# Altium footprint library Connectors.PcbLib: 73 footprints (part 1 of 5)
Each footprint in its own frame and in the unit in brackets; x right, y up, seen from the top. Pads: shape width x height; smd on the part's side, far side on the other; paste and mask are expansions set on the pad; w line width, h text height; cw(c..) or ccw(c..) is an arc to the next point about the centre after c.
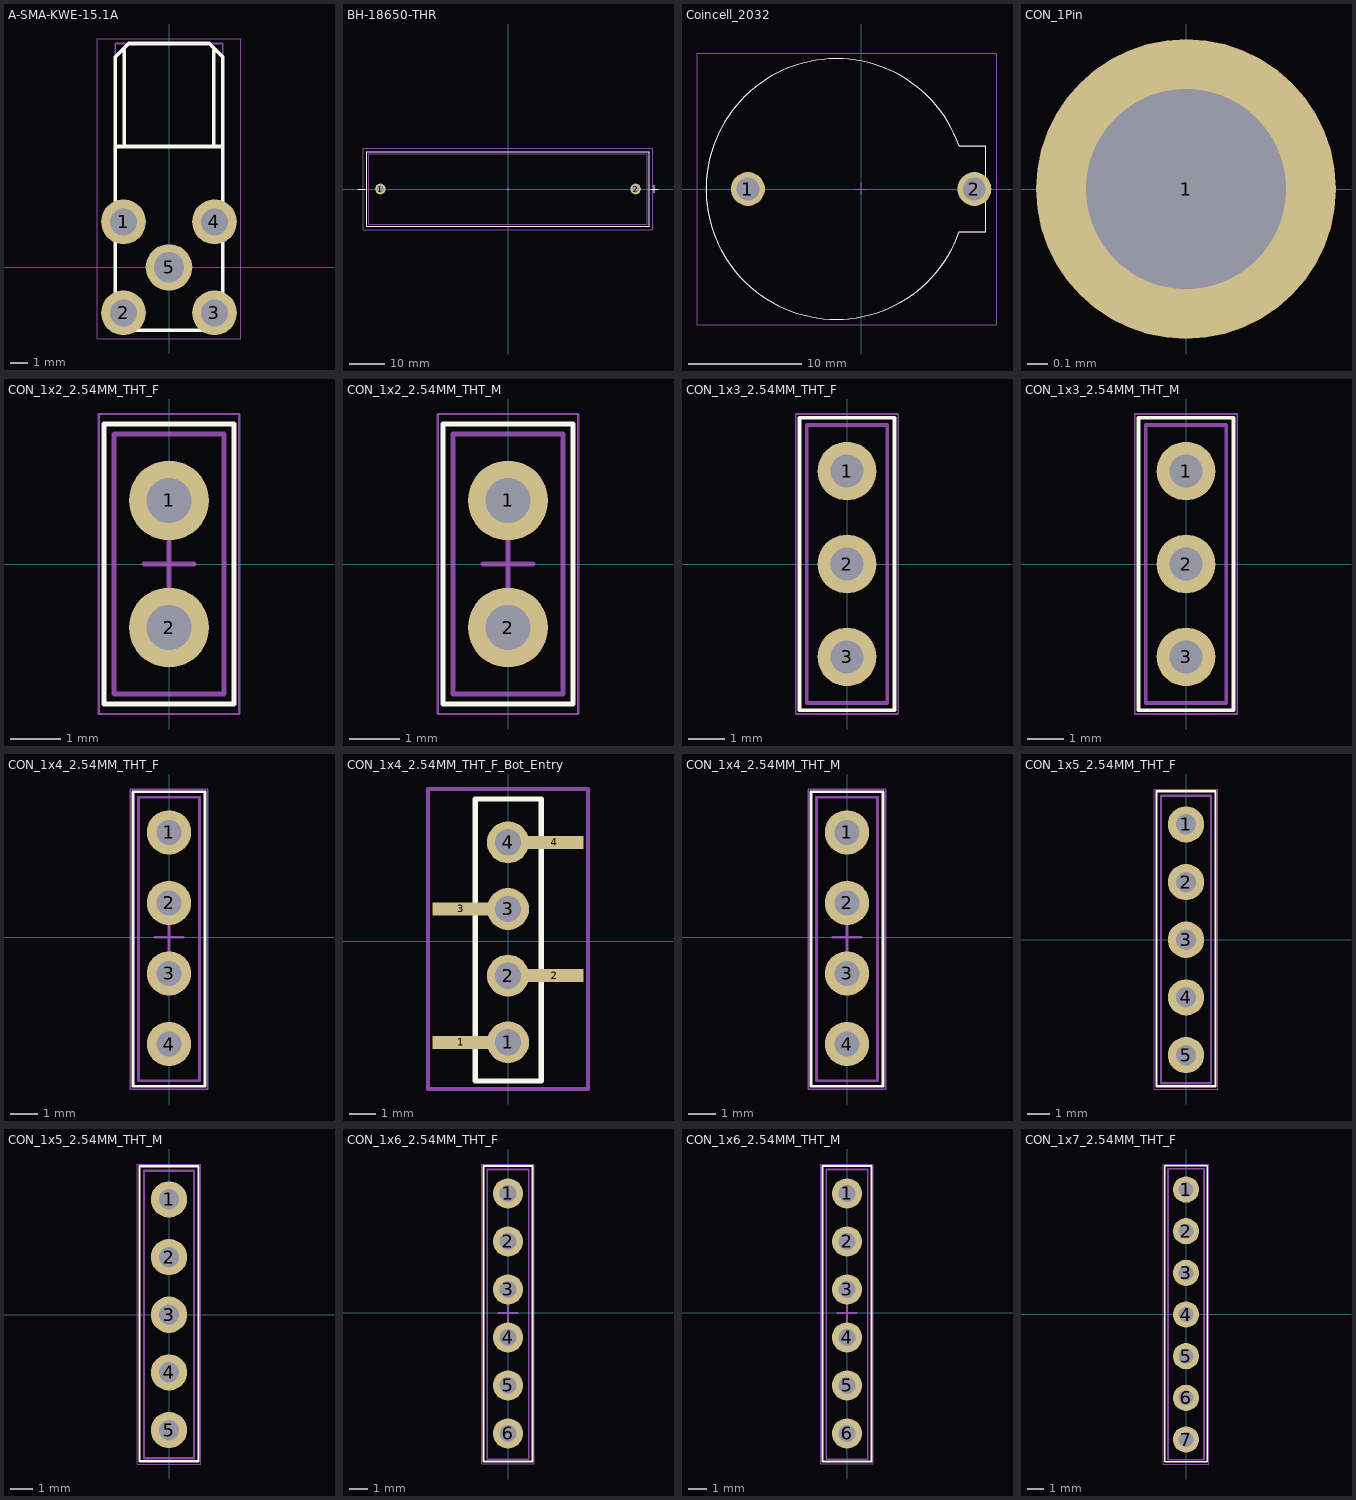
[diagram p0: the footprints below, top view; thin cyan lines are the x and y axes]

## A-SMA-KWE-15.1A [mm] "1 Inner Bore SMA Board Side Elbow 6GHz 50Ω 5.35mm Through Hole Coaxial Connector (RF) Adapters RoHS"
height 4.8
pads (5):
  round 2.5 hole 1.5: 1(-2.54,2.54) 2(-2.54,-2.54) 3(2.54,-2.54) 4(2.54,2.54)
  round 2.6 hole 1.7: 5(0,0)
Top Overlay:
  lines w0.2: -3,6.75 3,6.75 ; -2.625,12.125 -2.5,12.125 -2.5,6.75 ; 2.5,6.75 2.5,12.125 2.625,12.125 ; -3,-3.5 -3,11.75 -2.25,12.5 2.25,12.5 3,11.75 3,-3.5 -3,-3.5
Mechanical 13:
  lines w0.1: -3,-3.5 3,-3.5 3,12.5 -3,12.5 -3,-3.5
Mechanical 15:
  lines w0.05: -4,-4 4,-4 4,12.75 -4,12.75 -4,-4
  lines w0.1: -0.5,0 0.5,0 ; 0,-0.5 0,0.5
3D body: height 10.8, standoff 4.8, extent -3,3 3,11.6
3D body: height 11, standoff 0.1, extent -3,-3 3,3

## BH-18650-THR [mm]
pads (2):
  round 3 hole 1.9: 1(-36.15,0) 2(36.15,0)
Top Overlay:
  lines w0.2: -42.5,0 -40.5,0 ; 40.5,0 42.5,0 ; 41.5,-1 41.5,1 ; -40,-10.5 40,-10.5 40,10.5 -40,10.5 -40,-10.5
Mechanical 13:
  lines w0.2: 39.5,10 -39.5,10 -39.5,-10 39.5,-10 39.5,10 ; 39.5,10 39.5,10
Mechanical 15:
  lines w0.05: -41,-11.5 -41,11.5 41,11.5 41,-11.5 -41,-11.5
  lines w0.1: -0.5,0 -0.3,0 0.5,0 ; 0,-0.5 0,0.5
3D body: height 22, standoff 0, extent -39.5,-10 39.5,10

## Coincell_2032 [mm]
pads (2):
  round 3 hole 2: 1(-10,0) 2(10,0)
Top Overlay:
  lines w0.1: 8.65,3.818 ccw(c-2.2,0) 8.66,-3.786 11,-3.786 11,3.818 8.65,3.818
Mechanical 13:
  lines w0.1: 8.667,-3.789 cw(c-2.2,0) 8.667,3.789 11,3.789 11,-3.789 8.667,-3.789
Mechanical 15:
  lines w0.05: -14.5,-12 12,-12 12,12 -14.5,12 -14.5,-12
  lines w0.1: -0.5,0 -0.3,0 0.5,0 ; 0,-0.5 0,0.5
3D body: height 8.2, standoff 0.5, extent -13.7,-11.497 9.3,11.497
3D body: height 7.7, standoff 0.5, extent 7.9,-3.8 11,3.804

## CON_1Pin [mm]
pads (1):
  round 1.5 hole 1: 1(0,0)
3D body: height 8.3, standoff -3, extent -0.3,-0.3 0.3,0.3
3D body: height 2.4, standoff 0.1, extent -1.016,-1.143 1.016,1.143

## CON_1x2_2.54MM_THT_F [mm]
height 2
pads (2):
  round 1.6 hole 0.9: 1(0,1.27) 2(0,-1.27)
Top Overlay:
  lines w0.1: -1.3,-2.8 -1.3,2.8 1.3,2.8 1.3,-2.8 -1.3,-2.8
Mechanical 13:
  lines w0.1: -1.1,-2.6 -1.1,2.6 1.1,2.6 1.1,-2.6 -1.1,-2.6
Mechanical 15:
  lines w0.05: -1.4,-3 -1.4,3 1.4,3 1.4,-3 -1.4,-3
  lines w0.1: -0.5,0 0.5,0 ; 0,-0.5 0,0.5
3D body "step_temp.STEP": height 8.45, standoff -3.15, extent -1.23,-2.79 1.27,2.79

## CON_1x2_2.54MM_THT_M [mm]
height 1.4
pads (2):
  round 1.6 hole 0.9: 1(0,1.27) 2(0,-1.27)
Top Overlay:
  lines w0.1: -1.3,-2.8 -1.3,2.8 1.3,2.8 1.3,-2.8 -1.3,-2.8
Mechanical 13:
  lines w0.1: -1.1,-2.6 -1.1,2.6 1.1,2.6 1.1,-2.6 -1.1,-2.6
Mechanical 15:
  lines w0.05: -1.4,-3 -1.4,3 1.4,3 1.4,-3 -1.4,-3
  lines w0.1: -0.5,0 0.5,0 ; 0,-0.5 0,0.5
3D body: height 2.4, standoff 0.1, extent -1.016,-2.54 1.016,2.54
3D body: height 8.3, standoff -3, extent -0.3,0.97 0.3,1.57
3D body: height 8.3, standoff -3, extent -0.3,-1.57 0.3,-0.97

## CON_1x3_2.54MM_THT_F [mm]
height 1.4
pads (3):
  round 1.6 hole 0.9: 1(0,2.54) 2(0,0) 3(0,-2.54)
Top Overlay:
  lines w0.1: -1.3,-4 -1.3,4 1.3,4 1.3,-4 -1.3,-4
Mechanical 13:
  lines w0.1: -1.1,-3.8 -1.1,3.8 1.1,3.8 1.1,-3.8 -1.1,-3.8
Mechanical 15:
  lines w0.05: -1.4,-4.1 -1.4,4.1 1.4,4.1 1.4,-4.1 -1.4,-4.1
  lines w0.1: -0.5,0 0.5,0 ; 0,-0.5 0,0.5
3D body "61300311821+%28rev1%29.stp": height 8.45, standoff -3.15, extent -1.25,-4.06 1.25,4.06

## CON_1x3_2.54MM_THT_M [mm]
height 1.4
pads (3):
  round 1.6 hole 0.9: 1(0,2.54) 2(0,0) 3(0,-2.54)
Top Overlay:
  lines w0.1: -1.3,-4 1.3,-4 1.3,4 -1.3,4 -1.3,-4
Mechanical 13:
  lines w0.1: -1.1,-3.8 1.1,-3.8 1.1,3.8 -1.1,3.8 -1.1,-3.8
Mechanical 15:
  lines w0.05: -1.4,-4.1 1.4,-4.1 1.4,4.1 -1.4,4.1 -1.4,-4.1
  lines w0.1: -0.5,0 0.5,0 ; 0,-0.5 0,0.5
3D body: height 8.3, standoff -3, extent -0.3,2.24 0.3,2.84
3D body: height 8.3, standoff -3, extent -0.3,-0.3 0.3,0.3
3D body: height 8.3, standoff -3, extent -0.3,-2.84 0.3,-2.24
3D body: height 2.4, standoff 0.1, extent -1.016,-3.754 1.016,3.756

## CON_1x4_2.54MM_THT_F [mm]
height 1.4
pads (4):
  round 1.6 hole 0.9: 1(0,3.78) 2(0,1.24) 3(0,-1.3) 4(0,-3.84)
Top Overlay:
  lines w0.1: -1.3,-5.36 1.3,-5.36 1.3,5.24 -1.3,5.24 -1.3,-5.36
Mechanical 13:
  lines w0.1: -1.1,-5.16 1.1,-5.16 1.1,5.04 -1.1,5.04 -1.1,-5.16
Mechanical 15:
  lines w0.05: -1.4,-5.46 1.4,-5.46 1.4,5.34 -1.4,5.34 -1.4,-5.46
  lines w0.1: -0.5,0 0.5,0 ; 0,-0.5 0,0.5
3D body "PPPC041LFBNRC--3DModel-STEP-269445.STEP": height 8.51, standoff -3.2, extent -1.269,-5.385 1.271,5.283

## CON_1x4_2.54MM_THT_F_Bot_Entry [mm]
height 1.4
pads (8):
  rect 2.2x0.5 smd: 1(-1.778,-3.842) 2(1.778,-1.302) 3(-1.778,1.238) 4(1.778,3.778)
  round 1.6 hole 1: 1(0,-3.842) 2(0,-1.302) 3(0,1.238) 4(0,3.778)
Top Overlay:
  lines w0.2: -1.25,-5.312 1.25,-5.312 1.27,-5.312 1.27,5.429 -1.25,5.429 -1.25,-5.312
Mechanical 15:
  lines w0.15: -3.048,-5.62 -3.048,5.81 -1.016,5.81 1.524,5.81 3.048,5.81 3.048,-5.62 -3.048,-5.62
3D body "PPPC041LFBNRC--3DModel-STEP-269445.STEP": height 8.51, standoff -3.2, extent -1.269,-5.385 1.271,5.283

## CON_1x4_2.54MM_THT_M [mm]
height 1.4
pads (4):
  round 1.6 hole 0.9: 1(0,3.78) 2(0,1.24) 3(0,-1.3) 4(0,-3.84)
Top Overlay:
  lines w0.1: -1.3,-5.36 1.3,-5.36 1.3,5.24 -1.3,5.24 -1.3,-5.36
Mechanical 13:
  lines w0.1: -1.1,-5.16 1.1,-5.16 1.1,5.04 -1.1,5.04 -1.1,-5.16
Mechanical 15:
  lines w0.05: -1.4,-5.46 1.4,-5.46 1.4,5.34 -1.4,5.34 -1.4,-5.46
  lines w0.1: -0.5,0 0.5,0 ; 0,-0.5 0,0.5
3D body: height 8.3, standoff -3, extent -0.3,-4.14 0.3,-3.54
3D body: height 8.3, standoff -3, extent -0.3,-1.6 0.3,-1
3D body: height 8.3, standoff -3, extent -0.3,0.94 0.3,1.54
3D body: height 8.3, standoff -3, extent -0.3,3.48 0.3,4.08
3D body: height 2.4, standoff 0.1, extent -1.016,-5.08 1.016,4.953

## CON_1x5_2.54MM_THT_F [mm]
height 1.4
pads (5):
  round 1.6 hole 0.9: 1(0,5.08) 2(0,2.54) 3(0,0) 4(0,-2.54) 5(0,-5.08)
Top Overlay:
  lines w0.1: -1.3,-6.447 -1.3,6.54 1.3,6.54 1.3,-6.447 -1.3,-6.447
Mechanical 13:
  lines w0.1: -1.1,-6.32 -1.1,6.34 1.1,6.34 1.1,-6.32 -1.1,-6.32
Mechanical 15:
  lines w0.05: -1.4,-6.574 -1.4,6.64 1.4,6.64 1.4,-6.574 -1.4,-6.574
  lines w0.1: -0.5,0.03 0.5,0.03 ; 0,-0.47 0,0.53
3D body "PPPC051LFBNRC--3DModel-STEP-269445.STEP": height 8.51, standoff -3.2, extent -1.273,-6.558 1.267,6.65

## CON_1x5_2.54MM_THT_M [mm]
height 1.4
pads (5):
  round 1.6 hole 0.9: 1(0,5.08) 2(0,2.54) 3(0,0) 4(0,-2.54) 5(0,-5.08)
Top Overlay:
  lines w0.1: -1.3,-6.447 1.3,-6.447 1.3,6.54 -1.3,6.54 -1.3,-6.447
Mechanical 13:
  lines w0.1: -1.1,-6.32 1.1,-6.32 1.1,6.34 -1.1,6.34 -1.1,-6.32
Mechanical 15:
  lines w0.05: -1.4,-6.574 1.4,-6.574 1.4,6.64 -1.4,6.64 -1.4,-6.574
  lines w0.1: -0.5,0.03 0.5,0.03 ; 0,-0.47 0,0.53
3D body: height 2.4, standoff 0.1, extent -1.016,-6.223 1.016,6.223
3D body: height 8.3, standoff -3, extent -0.3,-5.38 0.3,-4.78
3D body: height 8.3, standoff -3, extent -0.3,-2.84 0.3,-2.24
3D body: height 8.3, standoff -3, extent -0.3,-0.3 0.3,0.3
3D body: height 8.3, standoff -3, extent -0.3,2.24 0.3,2.84
3D body: height 8.3, standoff -3, extent -0.3,4.78 0.3,5.38

## CON_1x6_2.54MM_THT_F [mm]
height 1.4
pads (6):
  round 1.6 hole 0.9: 1(0,6.32) 2(0,3.78) 3(0,1.24) 4(0,-1.3) 5(0,-3.84) 6(0,-6.38)
Top Overlay:
  lines w0.1: -1.3,-7.874 -1.3,7.78 1.3,7.78 1.3,-7.874 -1.3,-7.874
Mechanical 13:
  lines w0.1: -1.1,-7.747 1.1,-7.747 1.1,7.58 -1.1,7.58 -1.1,-7.747
Mechanical 15:
  lines w0.05: -1.4,-8.001 -1.4,7.88 1.4,7.88 1.4,-8.001 -1.4,-8.001
  lines w0.1: -0.5,0 0.5,0 ; 0,-0.5 0,0.5
3D body "step_temp.STEP": height 8.51, standoff -3.2, extent -1.27,-7.874 1.27,7.874

## CON_1x6_2.54MM_THT_M [mm]
height 1.4
pads (6):
  round 1.6 hole 0.9: 1(0,6.32) 2(0,3.78) 3(0,1.24) 4(0,-1.3) 5(0,-3.84) 6(0,-6.38)
Top Overlay:
  lines w0.1: -1.3,-7.874 1.3,-7.874 1.3,7.78 -1.3,7.78 -1.3,-7.874
Mechanical 13:
  lines w0.1: -1.1,-7.747 -1.1,7.58 1.1,7.58 1.1,-7.747 -1.1,-7.747
Mechanical 15:
  lines w0.05: -1.4,-8.001 1.4,-8.001 1.4,7.88 -1.4,7.88 -1.4,-8.001
  lines w0.1: -0.5,0 0.5,0 ; 0,-0.5 0,0.5
3D body: height 2.4, standoff 0.1, extent -1.016,-7.684 1.016,7.493
3D body: height 8.3, standoff -3, extent -0.3,6.02 0.3,6.62
3D body: height 8.3, standoff -3, extent -0.3,3.48 0.3,4.08
3D body: height 8.3, standoff -3, extent -0.3,0.94 0.3,1.54
3D body: height 8.3, standoff -3, extent -0.3,-1.6 0.3,-1
3D body: height 8.3, standoff -3, extent -0.3,-4.14 0.3,-3.54
3D body: height 8.3, standoff -3, extent -0.3,-6.68 0.3,-6.08

## CON_1x7_2.54MM_THT_F [mm]
height 1.4
pads (7):
  round 1.6 hole 0.9: 1(0,7.596) 2(0,5.056) 3(0,2.516) 4(0,-0.024) 5(0,-2.564) 6(0,-5.104) 7(0,-7.644)
Top Overlay:
  lines w0.1: -1.3,-9.011 -1.3,9.056 1.3,9.056 1.3,-9.011 -1.3,-9.011
Mechanical 13:
  lines w0.1: -1.1,-8.884 -1.1,8.856 1.1,8.856 1.1,-8.884 -1.1,-8.884
Mechanical 15:
  lines w0.05: -1.4,-9.138 -1.4,9.156 1.4,9.156 1.4,-9.138 -1.4,-9.138
  lines w0.1: -0.5,0.006 0.5,0.006 ; 0,-0.493 0,0.507
3D body "76308-107LF--3DModel-STEP-554624.STEP": height 8.51, standoff -3.43, extent -1.27,-8.89 1.27,8.89